# Altium schematic symbol library ESC_Project.SCHLIB: 27 symbols
Pins are listed as number, name and electrical type; pins without a type are passive.

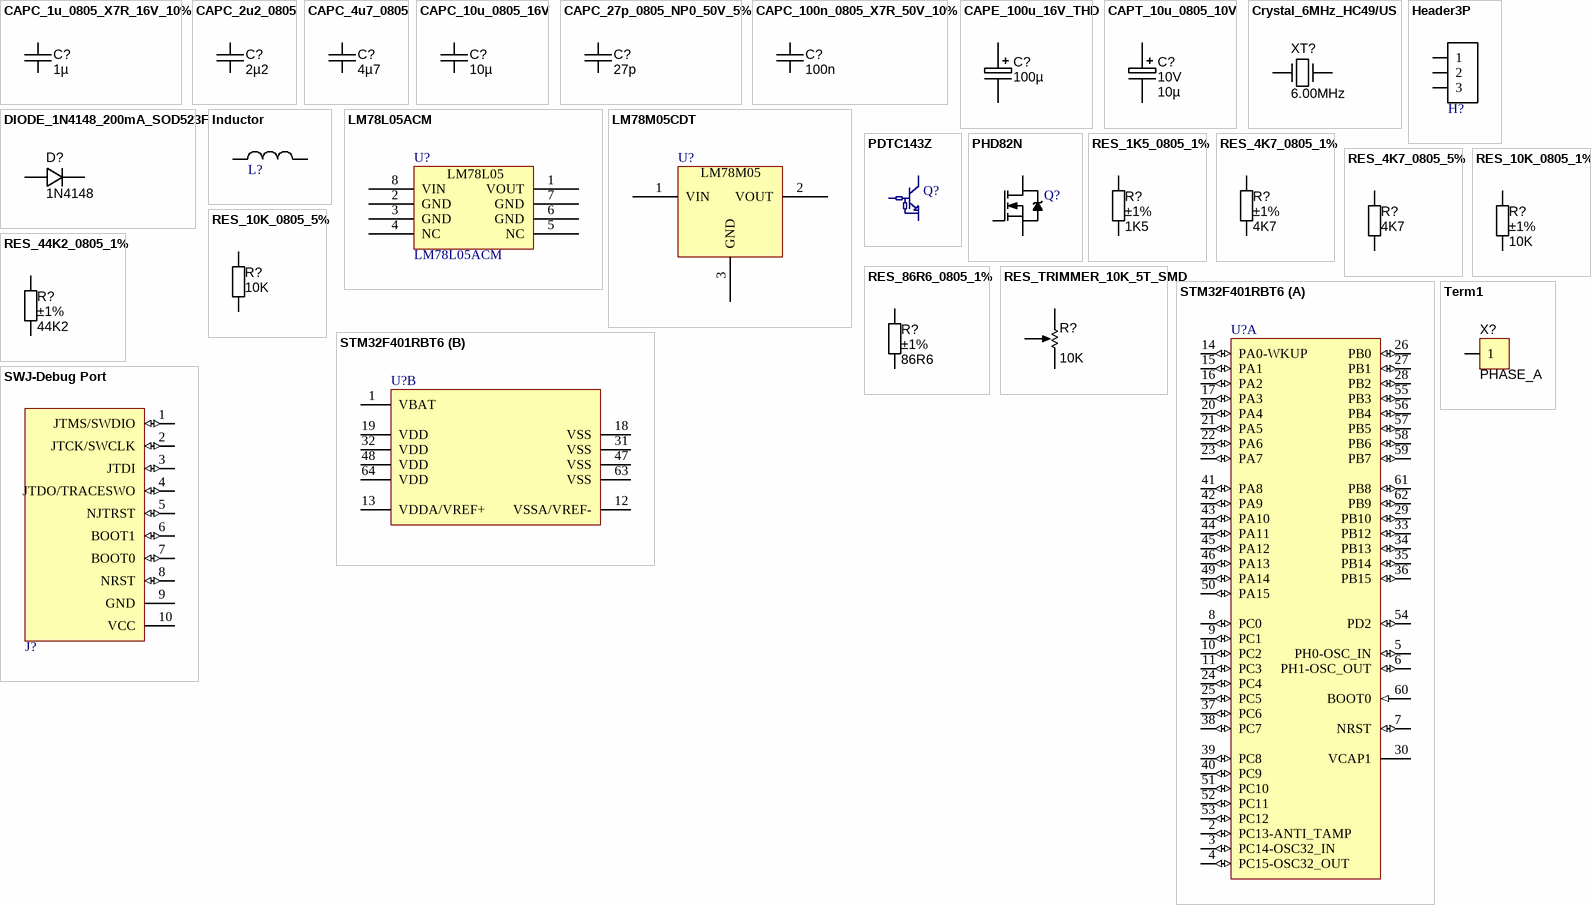
[diagram p0: symbols CAPC_1u_0805_X7R_16V_10% to Term1]

## CAPC_1u_0805_X7R_16V_10%
designator C?, comment value 1µ  (hidden comment: approved sub OK)
Capacitor SMD Cer 1uF 10% 16V X7R 0805; Manufacturer 1: Yageo; Manufacturer Part Number 1: CC0805KKX7R7BB105; Ratings: 16V; X7R; Material: ceramic; SCDType: spec; Package / Case: 0805 (2012 metric); Tolerance: ±10%; Supplier 1: Digi-Key; Supplier Part Number 1: 311-1365-6-ND; RoHS 1: RoHS Compliant; Temperature Coefficient: X7R; ComponentLink1URL: http://www.yageo.com/documents/recent/UPY-GPHC_X7R_6.3V-to-50V_8.pdf; ComponentLink1Description: http://www.yageo.com/documents/recent/UPY-GPHC_X7R_6.3V-to-50V_8.pdf; Supplier 2: Digi-Key; Supplier Part Number 2: 399-1284-6-ND; Manufacturer 2: Kemet; Manufacturer Part Number 2: C0805C105K4RACTU; RoHS 2: RoHS Compliant; ComponentLink2URL: http://www.kemet.com/datasheets&C0805C105K4RACTU; ComponentLink2Description: http://www.kemet.com/datasheets&C0805C105K4RACTU; Supplier 3: Digi-Key; Supplier Part Number 3: 1276-1026-6-ND; Manufacturer 3: Samsung Electro-Mechanics America, Inc; Manufacturer Part Number 3: CL21B105KOFNNNE; RoHS 3: RoHS Compliant; ComponentLink3URL: http://www.samsungsem.com/servlet/FileDownload?type=spec&file=CL21B105KOFNNNE.pdf; ComponentLink3Description: http://www.samsungsem.com/servlet/FileDownload?type=spec&file=CL21B105KOFNNNE.pdf; Supplier 4: Digi-Key; Supplier Part Number 4: 445-1358-6-ND; Manufacturer 4: TDK Corporation; Manufacturer Part Number 4: C2012X7R1C105K125AA; RoHS 4: RoHS Compliant; ComponentLink4URL: http://product.tdk.com/capacitor/mlcc/en/documents/mlcc_commercial_general_en.pdf; ComponentLink4Description: http://product.tdk.com/capacitor/mlcc/en/documents/mlcc_commercial_general_en.pdf
footprint CAPC2012X135N (Chip Capacitor, Body 2.0x1.2mm, 0805, IPC Medium Density)
pins: 1, 2

## CAPC_2u2_0805
designator C?, comment value 2µ2  (hidden comment: approved sub OK)
Capacitor SMD Cer 2.2uF 10% 16V X7R 0805; Manufacturer 1: Kemet; Manufacturer Part Number 1: C0805C225K4RACTU; Ratings: 16V; X7R; SCDType: undef; Supplier 1: Digi-Key; Supplier Part Number 1: 399-3523-1-ND; Tolerance: ±10%; Package / Case: 0805 (2012 metric)
footprint CAPC2012X135N (Chip Capacitor, Body 2.0x1.2mm, 0805, IPC Medium Density)
pins: 1, 2

## CAPC_4u7_0805
designator C?, comment value 4µ7  (hidden comment: approved sub OK)
Capacitor SMD Cer 4.7uF 10% 16V X5R 0805; Manufacturer 1: Taiyo Yuden; Manufacturer Part Number 1: EMK212BJ475KG-T; Ratings: 16V; X5R; Material: ceramic; SCDType: spec; Package / Case: 0805 (2012 Metric); Tolerance: ±10%; Supplier 1: Digi-Key; Supplier Part Number 1: 587-1294-1-ND; Operating Temperature: -55°C ~ 85°C; Size / Dimension: 0.079" L x 0.049" W (2.00mm x 1.25mm); Thickness (Max): 0.053" (1.35mm); ComponentLink1URL: http://www.yuden.co.jp/productdata/catalog/en/mlcc01_e.pdf; ComponentLink1Description: http://www.yuden.co.jp/productdata/catalog/en/mlcc01_e.pdf; Supplier 2: Digi-Key; Supplier Part Number 2: 1276-1065-1-ND; Manufacturer 2: Samsung Electro-Mechanics America, Inc; Manufacturer Part Number 2: CL21A475KOFNNNE; RoHS 2: RoHS Compliant; ComponentLink2URL: http://www.samsungsem.com/servlet/FileDownload?type=spec&file=CL21A475KOFNNNE.pdf; ComponentLink2Description: http://www.samsungsem.com/servlet/FileDownload?type=spec&file=CL21A475KOFNNNE.pdf; Supplier 3: Digi-Key; Supplier Part Number 3: 399-8101-1-ND; Manufacturer 3: Kemet; Manufacturer Part Number 3: C0805C475K4PACTU; RoHS 3: RoHS Compliant; ComponentLink3URL: http://capacitoredge.kemet.com/capedge2/DataSheet?pn=C0805C475K4PACTU; ComponentLink3Description: http://capacitoredge.kemet.com/capedge2/DataSheet?pn=C0805C475K4PACTU; Supplier 4: Digi-Key; Supplier Part Number 4: 490-7215-1-ND; Manufacturer 4: Murata Electronics North America; Manufacturer Part Number 4: GRM21BR61C475MA88L; RoHS 4: RoHS Compliant; ComponentLink4URL: http://psearch.murata.com/capacitor/product/GRM21BR61C475MA88#.pdf; ComponentLink4Description: http://psearch.murata.com/capacitor/product/GRM21BR61C475MA88#.pdf; Supplier 5: Digi-Key; Supplier Part Number 5: 445-7640-1-ND; Manufacturer 5: TDK Corporation; Manufacturer Part Number 5: C2012X5R1C475K125AC; RoHS 5: RoHS Compliant; ComponentLink5URL: http://product.tdk.com/capacitor/mlcc/en/documents/mlcc_commercial_general_en.pdf; ComponentLink5Description: http://product.tdk.com/capacitor/mlcc/en/documents/mlcc_commercial_general_en.pdf; RoHS 1: RoHS Compliant
footprint CAPC2012X135N (Chip Capacitor, Body 2.0x1.2mm, 0805, IPC Medium Density)
pins: 1, 2

## CAPC_10u_0805_16V
designator C?, comment value 10µ  (hidden comment: approved sub OK)
Capacitor SMD Cer 10uF 10% 16V X7R 0805; Manufacturer 1: Samsung; Manufacturer Part Number 1: CL21B106KBN; Ratings: 16V; X7R; Material: ceramic; SCDType: undef; Package / Case: 0805 (2012 metric); Tolerance: ±10%
footprint CAPC1608N (Chip Capacitor, Body 1.6x0.8mm, IPC Medium Density)
footprint CAPC3216N (Chip Capacitor, Body 3.2x1.6mm, IPC Medium Density)
footprint CAPC2012X135N (Chip Capacitor, Body 2.0x1.2mm, 0805, IPC Medium Density)
pins: 1, 2

## CAPC_27p_0805_NP0_50V_5%
designator C?, comment value 27p  (hidden comment: approved sub OK)
Capacitor SMD Cer 27pF 5% 50V NP0 0805; Manufacturer 1: Panasonic - ECG; Manufacturer Part Number 1: ECJ-2VC1H270J; Ratings: 50V; NP0; SCDType: undef; Tolerance: ±5%; Operating Temperature: -55°C ~ 125°C; Package / Case: 0805 (2012 metric); Supplier 1: Digi-Key; Supplier Part Number 1: PCC270CGCT-ND
footprint CAPC2012X135N (Chip Capacitor, Body 2.0x1.2mm, 0805, IPC Medium Density)
pins: 1, 2

## CAPC_100n_0805_X7R_50V_10%
designator C?, comment value 100n  (hidden comment: approved sub OK)
Capacitor SMD Cer 100nF 10% 50V X7R 0805; Manufacturer 1: Kemet; Manufacturer Part Number 1: C0805C104K5RACTU; Ratings: 50V; X7R; Material: ceramic; SCDType: undef; Package / Case: 0805 (2012 metric); Tolerance: ±10%; Supplier 1: Digi-Key; Supplier Part Number 1: 399-1170-1-ND
footprint CAPC1608N (Chip Capacitor, Body 1.6x0.8mm, IPC Medium Density)
footprint CAPC3216N (Chip Capacitor, Body 3.2x1.6mm, IPC Medium Density)
footprint CAPC2012X135N (Chip Capacitor, Body 2.0x1.2mm, 0805, IPC Medium Density)
pins: 1, 2

## CAPE_100u_16V_THD
designator C?, comment 100µ
Capacitor THD Electrolytic 100uF 20% 16V Radial; Manufacturer: Panasonic - ECG; Manufacturer Part Number: ECA-1CM101; Material: Aluminum Electrolytic; SCDType: spec; Package / Case: Radial - Through hole; Ratings: 16V; Tolerance: ±20%; Supplier 1: Digi-Key; Supplier Part Number 1: P5138-ND; Value: 100µ
footprint CAPAE200P550X1200_FLAT2
pins: 1, 2

## CAPT_10u_0805_10V
designator C?, comment Ratings: 10V  (hidden comment: 10µ)
Capacitor SMD Tantalum 10uF 20% 10V 0805; Manufacturer 1: AVX Corporation; Manufacturer Part Number 1: TAJP106M010RNJ; SCDType: spec; Package / Case: 0805 (2012 metric); Tolerance: ±20%; Material: Tantalum; Supplier 1: Digi-Key; Supplier Part Number 1: 478-3281-1-ND; Value: 10µ
footprint CAPMP2012X150USR (Molded body capacitor, Body 2.0x1.2mm, 0805, IPC Medium Density)
pins: 1, 2

## Crystal_6MHz_HC49/US
designator XT?, comment 6.00MHz
Resonator Ceramic 6.00 MHz 30ppm; Manufacturer 1: CTS-Frequency Controls; Manufacturer Part Number 1: ATS060BSM-1; Frequency: 6MHz; Frequency Stability: ±50ppm; Load Capacitance: 18pF; Operating Mode: Fundamental; Parameter Name: 0.169" (4.30mm); SCDType: spec; Package / Case: HC49/US-SM; Ratings: 6.00 MHz; Supplier 1: Digi-Key; Supplier Part Number 1: CTX882CT-ND; Type: MHz Crystal; Frequency Tolerance: ±30ppm; Operating Temperature: -20°C ~ 70°C; Mounting Type: Surface Mount; Size / Dimension: 0.437" L x 0.190" W (11.10mm x 4.83mm); ComponentLink1URL: http://www.ctscorp.com/components/Datasheets/008-0309-0.pdf; ComponentLink1Description: http://www.ctscorp.com/components/Datasheets/008-0309-0.pdf
footprint CRYSTAL_HC49-US-SM (SMD Crystal HC49/US-SM package)
pins: 1 IN, 2 OUT

## DIODE_1N4148_200mA_SOD523F
designator D?, comment 1N4148
Diode SMD small signal 0.2A SOD-523F; Manufacturer 1: Fairchild Semiconductor; Manufacturer Part Number 1: 1N4148WT; Ratings: Vr=75V; Vf=1V@10mA; Io=200mA; Material: Si; SCDType: source; Package / Case: SC-79, SOD-523F; Supplier 1: Digi-Key; Supplier Part Number 1: 1N4148WTCT-ND; ComponentLink1URL: http://www.fairchildsemi.com/ds/1N/1N914BWT.pdf; ComponentLink1Description: http://www.fairchildsemi.com/ds/1N/1N914BWT.pdf; Value: 1N4148
footprint SOD523F (SOD-523F; 2 Leads; Body 1.3 x 0.9 mm, (LxW))
pins: A, K

## Header3P
designator H?  (value not drawn)
Header, 2-pin
footprint HDR_1x3
pins: 1, 2, 3

## Inductor
designator L?  (value not drawn)
0603 Inductor
footprint INDUCTOR (Chip Ferrite, Body 1.6x0.8mm, 0603, IPC Medium Density)
pins: 1, 2

## LM78L05ACM
designator U?
100-mA Fixed Output Linear Regulator
footprint SOIC_8 (SOIC 8 Pin)
pins: 1 VOUT (power) "Output voltage pin", 2 GND (power) "Ground", 3 GND (power) "Ground", 4 NC "No connection", 5 NC "No connection", 6 GND (power) "Ground", 7 GND (power) "Ground", 8 VIN (power) "Input supply voltage pin"
text: LM78L05

## LM78M05CDT
designator U?  (value not drawn)
LM78L05
footprint TO-252 (NDP Package  3-Pin TO-252)
pins: 1 VIN (power) "Input supply voltage pin", 2 VOUT (power) "Output supply voltage pin", 3 GND (power) "Ground"
text: LM78M05

## PDTC143Z
designator Q?  (value not drawn)
NPN Resistor-Equipped Transistor (RET)
footprint TO-236
pins: 1 B (power), 2 E (power), 3 C (power)

## PHD82N
designator Q?  (value not drawn)
PHD82N N-Channel MOSFET transistor
footprint TO-252_1
pins: 1 G, 2 S, 3 D

## RES_1K5_0805_1%
designator R?, comment value 1K5  Tolerance: ±1%  (hidden comment: Thick Film)
Resistor SMD chip 1.5k Ohm 0.125W 1% 0805; Manufacturer 1: Vishay/Dale; Manufacturer Part Number 1: CRCW08051K50FKEA; Ratings: 1/8W; SCDType: spec; Package / Case: 0805 (2012 metric); Supplier 1: Digi-Key; Supplier Part Number 1: 541-1.50KCCT-ND
footprint RESC2012X70N (Chip Resistor, Body 2.0x1.2mm, 0805, IPC Medium Density)
pins: 1, 2

## RES_4K7_0805_1%
designator R?, comment value 4K7  Tolerance: ±1%  (hidden comment: Thick Film)
Resistor SMD chip 4.7k Ohm 0.125W 1% 0805; Manufacturer 1: Vishay/Dale; Manufacturer Part Number 1: CRCW08054K70FKEA; Ratings: 1/8W; SCDType: spec; Package / Case: 0805 (2012 metric); Supplier 1: Digi-Key; Supplier Part Number 1: 541-4.70KCCT-ND
footprint RESC2012X70N (Chip Resistor, Body 2.0x1.2mm, 0805, IPC Medium Density)
pins: 1, 2

## RES_4K7_0805_5%
designator R?, comment value 4K7  (hidden comment: Thick Film)
Resistor SMD chip 4.7k Ohm 0.125W 5% 0805; Manufacturer 1: Yageo; Manufacturer Part Number 1: RC0805JR-074K7L; Ratings: 1/8 W; SCDType: spec; Package / Case: 0805 (2012 metric); Tolerance: ±5%; Material: Thick Film; Supplier 1: Digi-Key; Supplier Part Number 1: 311-4.7KARCT-ND
footprint RESC2012X70N (Chip Resistor, Body 2.0x1.2mm, 0805, IPC Medium Density)
pins: 1, 2

## RES_10K_0805_1%
designator R?, comment value 10K  Tolerance: ±1%  (hidden comment: Thick Film)
Resistor SMD chip 10k Ohm 0.125W 1% 0805; Manufacturer 1: Vishay/Dale; Manufacturer Part Number 1: CRCW080510K0FKEA; Ratings: 1/8W; SCDType: spec; Package / Case: 0805 (2012 metric); Supplier 1: Digi-Key; Supplier Part Number 1: 541-10.0KCCT-ND; Material: Thick Film
footprint RESC2012X70N (Chip Resistor, Body 2.0x1.2mm, 0805, IPC Medium Density)
pins: 1, 2

## RES_10K_0805_5%
designator R?, comment value 10K  (hidden comment: Thick Film)
Resistor SMD chip 10k Ohm 0.125W 5% 0805; Manufacturer 1: Yageo; Manufacturer Part Number 1: RC0805JR-0710KL; Ratings: 1/8 W; SCDType: spec; Package / Case: 0805 (2012 metric); Tolerance: ±5%; Material: Thick Film; Supplier 1: Digi-Key; Supplier Part Number 1: 311-10KARCT-ND
footprint RESC2012X70N (Chip Resistor, Body 2.0x1.2mm, 0805, IPC Medium Density)
pins: 1, 2

## RES_44K2_0805_1%
designator R?, comment value 44K2  Tolerance: ±1%  (hidden comment: Thick Film)
Resistor SMD chip 44.2k Ohm 0.125W 1% 0805; Manufacturer 1: Vishay/Dale; Manufacturer Part Number 1: CRCW080544K2FKEA; Ratings: 1/8W; SCDType: spec; Package / Case: 0805 (2012 metric); Supplier 1: Digi-Key; Supplier Part Number 1: 541-44.2KCCT-ND
footprint RESC2012X70N (Chip Resistor, Body 2.0x1.2mm, 0805, IPC Medium Density)
pins: 1, 2

## RES_86R6_0805_1%
designator R?, comment value 86R6  Tolerance: ±1%  (hidden comment: Thick Film)
Resistor SMD chip 86.6 Ohm 0.125W 1% 0805; Manufacturer: Vishay/Dale; Manufacturer Part Number: CRCW080586R6FKEA; Ratings: 1/8W; SCDType: spec; Package / Case: 0805 (2012 metric); Supplier 1: Digi-Key; Supplier Part Number 1: 541-86.6CCT-ND
footprint RESC2012X70N (Chip Resistor, Body 2.0x1.2mm, 0805, IPC Medium Density)
pins: 1, 2

## RES_TRIMMER_10K_5T_SMD
designator R?, comment value 10K  (hidden comment: 5 Turn)
Trimmer SMD 10K 250mW 5-turn Side-adjust; Manufacturer 1: Bourns Inc.; Manufacturer Part Number 1: 3214G-1-103E; Tolerance: 10%; Ratings: 5 turn variable cermet; Number of Turns: 5; SCDType: spec; Supplier 1: Digi-Key; Supplier Part Number 1: 3214G-1-103ECT-ND
footprint TrimPot_SMD_Bourns_3214G (Bourns- 3214G - TRIMMER)
pins: 1 CCW, 2 WIPER, 3 CW

## STM32F401RBT6
designator U?
ARM Cortex-M4 32-bit MCU+FPU, 105 DMIPS, 128 kB Flash, 64 kB Internal RAM, 48 I/Os, 64-pin LQFP, -40 to 85 degC, Tray; Manufacturer: STMicroelectronics; PartNumber: STM32F401RBT6; FLASH Size (Prog) (kB): 128; I/Os (High Current): 48; Internal RAM Size (kB): 64; Operating Frequency(F) (Processor speed) (MHz): 84; Supply Voltage(Vcc) max (V): 3.6; Supply Voltage(Vcc) min (V): 1.8; DatasheetVersion: Rev. 1; PackageVersion: Rev. 4, 06/2013; PackageReference: LQFP64; PackageDescription: 64-Pin Low Profile Quad Flat Package, 10 x 10 mm Body, 0.5 mm Pitch; Supplier 1: Newark; Supplier Part Number 1: 19X6220; Supplier 2: Mouser; Supplier Part Number 2: 511-STM32F401RBT6; Core: ARM Cortex-M4; Packing: Tray; Mounting Technology: Surface Mount; ComponentLink1Description: Manufacturer URL; ComponentLink1URL: http://www.st.com/web/en/home.html; ComponentLink2Description: Datasheet; ComponentLink2URL: http://www.st.com/st-web-ui/static/active/en/resource/technical/document/data_brief/DM00071938.pdf; ComponentLink3Description: Package Specification; ComponentLink3URL: http://www.st.com/st-web-ui/static/active/en/resource/technical/document/datasheet/DM00037051.pdf
footprint STM-LQFP64_N (Thin QFP, 64-Leads, Body 10x10mm, Pitch 0.5mm, IPC Medium Density)
footprint STM-LQFP64_L (Thin QFP, 64-Leads, Body 10x10mm, Pitch 0.5mm, IPC High Density)
footprint STM-LQFP64_M (Thin QFP, 64-Leads, Body 10x10mm, Pitch 0.5mm, IPC Low Density)
footprint STM-LQFP64_V (Thin QFP, 64-Leads, Body 10x10mm, Pitch 0.5mm, ST Recommended)
part A pins: 2 PC13-ANTI_TAMP (io) "PC13-ANTI_TAMP/TAMP_1", 3 PC14-OSC32_IN (io) "PC14-OSC32_IN/OSC32_IN", 4 PC15-OSC32_OUT (io) "PC15-OSC32_OUT/OSC32_OUT", 5 PH0-OSC_IN (io) "PH0-OSC_IN/OSC_IN", 6 PH1-OSC_OUT (io) "PH1-OSC_OUT/OSC_OUT", 7 NRST (io), 8 PC0 (io) "PC0/ADC1_10", 9 PC1 (io) "PC1/ADC1_11", 10 PC2 (io) "PC2/SPI2_MISO,I2S2ext_SD/ADC1_12", 11 PC3 (io) "PC3/SPI2_MOSI/I2S2_SD/ADC1_13", 14 PA0-WKUP (io) "PA0-WKUP/USART2_CTS,TIM2_CH1/TIM2_ETR,TIM5_CH1/ADC1_0,WKUP", 15 PA1 (io) "PA1/USART2_RTS,TIM2_CH2,TIM5_CH2/ADC1_1", 16 PA2 (io) "PA2/USART2_TX,TIM2_CH3,TIM5_CH3,TIM9_CH1/ADC1_2", 17 PA3 (io) "PA3/USART2_RX,TIM2_CH4,TIM5_CH4,TIM9_CH2/ADC1_3", 20 PA4 (io) "PA4/SPI1_NSS,SPI3_NSS/I2S3_WS,USART2_CK/ADC1_4", 21 PA5 (io) "PA5/SPI1_SCK,TIM2_CH1/TIM2_ETR/ADC1_5", 22 PA6 (io) "PA6/SPI1_MISO,TIM1_BKIN,TIM3_CH1/ADC1_6", 23 PA7 (io) "PA7/SPI1_MOSI,TIM1_CH1N,TIM3_CH2/ADC1_7", 24 PC4 (io) "PC4/ADC1_14", 25 PC5 (io) "PC5/ADC1_15", 26 PB0 (io) "PB0/TIM1_CH2N,TIM3_CH3/ADC1_8", 27 PB1 (io) "PB1/TIM1_CH3N,TIM3_CH4/ADC1_9", 28 PB2 (io), 29 PB10 (io) "PB10/SPI2_SCK/I2S2_CK,I2C2_SCL,TIM2_CH3", 30 VCAP1 (power), 33 PB12 (io) "PB12/SPI2_NSS/I2S2_WS,I2C2_SMBAL,TIM1_BKIN", 34 PB13 (io) "PB13/SPI2_SCK/I2S2_CK,TIM1_CH1N", 35 PB14 (io) "PB14/SPI2_MISO,I2S2ext_SD,TIM1_CH2N", 36 PB15 (io) "PB15/SPI2_MOSI/I2S2_SD,TIM1_CH3N,RTC_50Hz", 37 PC6 (io) "PC6/I2S2_MCK,USART6_TX,TIM3_CH1,SDIO_D6", 38 PC7 (io) "PC7/I2S3_MCK,USART6_RX,TIM3_CH2,SDIO_D7", 39 PC8 (io) "PC8/USART6_CK,TIM3_CH3,SDIO_D0", 40 PC9 (io) "PC9/I2S2_CKIN,I2C3_SDA,TIM3_CH4,SDIO_D1,MCO_2", 41 PA8 (io) "PA8/I2C3_SCL,USART1_CK,TIM1_CH1,USB_FS_SOF,MCO_1", 42 PA9 (io) "PA9/I2C3_SMBAL,USART1_TX,TIM1_CH2,USB_FS_VBUS", 43 PA10 (io) "PA10/USART1_RX,TIM1_CH3,USB_FS_ID", 44 PA11 (io) "PA11/USART1_CTS,USART6_TX,TIM1_CH4,USB_FS_DM", 45 PA12 (io) "PA12/USART1_RTS,USART6_RX,TIM1_ETR,USB_FS_DP", 46 PA13 (io) "PA13/JTMS-SWDIO", 49 PA14 (io) "PA14/JTCK-SWCLK", 50 PA15 (io) "PA15/SPI1_NSS,SPI3_NSS/I2S3_WS,TIM2_CH1/TIM2_ETR,JTDI", 51 PC10 (io) "PC10/SPI3_SCK/I2S3_CK,SDIO_D2", 52 PC11 (io) "PC11/I2S3ext_SD,SPI3_MISO,SDIO_D3", 53 PC12 (io) "PC12/SPI3_MOSI/I2S3_SD,SDIO_CK", 54 PD2 (io) "PD2/TIM3_ETR,SDIO_CMD", 55 PB3 (io) "PB3/SPI1_SCK,SPI3_SCK/I2S3_CK,I2C2_SDA,TIM2_CH2,JTDO-SWO", 56 PB4 (io) "PB4/SPI1_MISO,SPI3_MISO,I2S3ext_SD,I2C3_SDA,TIM3_CH1,JTRST", 57 PB5 (io) "PB5/SPI1_MOSI,SPI3_MOSI/I2S3_SD,I2C1_SMBAL,TIM3_CH2", 58 PB6 (io) "PB6/I2C1_SCL,USART1_TX,TIM4_CH1", 59 PB7 (io) "PB7/I2C1_SDA,USART1_RX,TIM4_CH2", 60 BOOT0 (in), 61 PB8 (io) "PB8/I2C1_SCL,TIM4_CH3,TIM10_CH1,SDIO_D4", 62 PB9 (io) "PB9/SPI2_NSS/I2S2_WS,I2C1_SDA,TIM4_CH4,TIM11_CH1,SDIO_D5"
part B pins: 1 VBAT (power), 12 VSSA/VREF- (power), 13 VDDA/VREF+ (power), 18 VSS (power), 19 VDD (power), 31 VSS (power), 32 VDD (power), 47 VSS (power), 48 VDD (power), 63 VSS (power), 64 VDD (power)

## SWJ-Debug Port
designator J?  (value not drawn)
10 pin Serial Wire JTAG Debug Port
footprint SWJ-DP connector (10 pin SWJ-DP PCB connector)
pins: 1 JTMS/SWDIO (io) "JTAG Test Mode Selection or Serial Wire Data Input/Output", 2 JTCK/SWCLK (io) "JTAG Test Clock or  Serial Wire Clock", 3 JTDI (io) "JTAG Test Data Input", 4 JTDO/TRACESWO (io) "JTAG Test Data Output or TRACESWO if async trace is enabled", 5 NJTRST (io) "JTAG Test nReset", 6 BOOT1 (io), 7 BOOT0 (io), 8 NRST (io) "BOOT0", 9 GND (power), 10 VCC (power)

## Term1
designator X?, comment PHASE_A  (no BOM)
footprint THP_D38_T75_B125 (Thru-Hole Pad with 75mil top and 125mil bottom annular rings)
pins: 1